# EAGLE library part HEADER_3X2 (library Header)
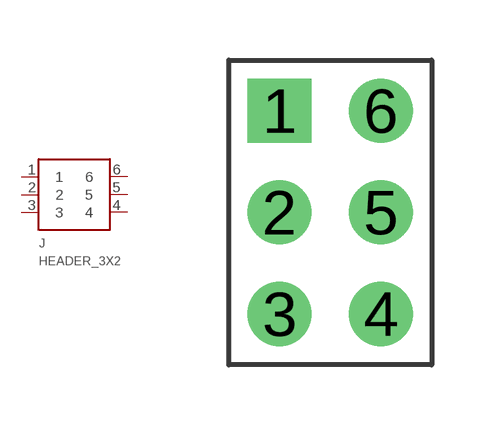
[diagram p0: symbol with the pads of H_3X2; footprint H_3X2]

Designator prefix J

## HEADER_3X2  [H_3X2]
1  1  pas
2  2  pas
3  3  pas
4  4  pas
5  5  pas
6  6  pas

## Footprint H_3X2 (pad centres in mm)
drill 1.067 square: 1 -1.27,2.54
drill 1.067 round: 2 -1.27,0; 3 -1.27,-2.54; 4 1.27,-2.54; 5 1.27,0; 6 1.27,2.54